# EAGLE library part ATZB-24-A2 (library m_module)
Atmel ZigBitTM 2.4 GHz Wireless Modules ZigBitTM is an ultra-compact, low-power, high-sensitivity 2.4 GHz IEEE 802.15.4/ZigBee® OEM module based on the innovative Atmel?s mixed-signal hardware platform. It is designed for wireless sensing, control and data acquisition applications. ZigBit modules eliminate the need for costly and time-consum- ing RF development, and shortens time to market for a wide range of wireless applications. Two different versions of 2.4 GHz ZigBit modules are available: ATZB-24-B0 module with balanced RF port for applications where the benefits of PCB or external antenna can be utilized and ATZB-24-A2 module with dual chip antenna satisfying the needs of applications requiring integrated, small-footprint antenna design. Key Features Ultra compact size (24 x 13.5 x 2.0 mm for ATZB-24-A2 module and 18.8 x 13.5 x 2.0 mm for ATZB-24-B0 module) Innovative (patent-pending) balanced dual chip antenna design with antenna gain of approximately 0 dBi (for ATZB-24-A2 version) High RX sensitivity (-101 dBm) Outperforming link budget (104 dB) Up to 3 dBm output power Very low power consumption: 6 ?A in Sleep mode, ? 19 mA in RX mode, ? 18mAinTXmode Ample memory resources (128K bytes of flash memory, 8K bytes RAM, 4K bytes EEPROM) Wide range of interfaces (both analog and digital): ? 9 spare GPIO, 2 spare IRQ lines ? 4 ADC lines + 1 line for supply voltage control (up to 9 lines with JTAG disabled) ? UART with CTS/RTS control ? USART ? I2C ? SPI ? 1-Wire ? Up to 30 lines configurable as GPIO ? Capability to write own MAC address into the EEPROM ? Optional antenna reference designs ? IEEE 802.15.4 compliant transceiver ? 2.4 GHz ISM band ? BitCloud embedded software, including serial bootloader and AT command set
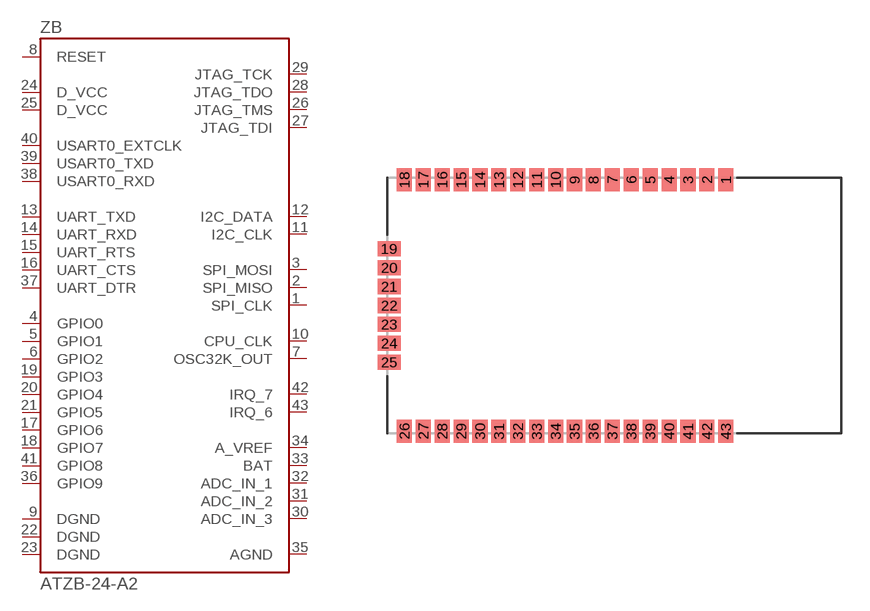
[diagram p3: symbol with the pads of ATZB-24-A2; footprint ATZB-24-A2]

Designator prefix ZB

## ATZB-24-A2 (PARTNUM: ATZB-24-A2)  [ATZB-24-A2]
1  SPI_CLK
2  SPI_MISO
3  SPI_MOSI
4  GPIO0
5  GPIO1
6  GPIO2
7  OSC32K_OUT
8  RESET
9  DGND
10  CPU_CLK
11  I2C_CLK
12  I2C_DATA
13  UART_TXD
14  UART_RXD
15  UART_RTS
16  UART_CTS
17  GPIO6
18  GPIO7
19  GPIO3
20  GPIO4
21  GPIO5
22  DGND
23  DGND
24  D_VCC
25  D_VCC
26  JTAG_TMS
27  JTAG_TDI
28  JTAG_TDO
29  JTAG_TCK
30  ADC_IN_3
31  ADC_IN_2
32  ADC_IN_1
33  BAT
34  A_VREF
35  AGND
36  GPIO9
37  UART_DTR
38  USART0_RXD
39  USART0_TXD
40  USART0_EXTCLK
41  GPIO8
42  IRQ_7
43  IRQ_6

## Footprint ATZB-24-A2 (pad centres in mm)
Atmel ZigBit ATZB-24-A2 Footprint
smd 0.8 x 1.2: 1 8.5,6.65; 2 7.5,6.65; 3 6.5,6.65; 4 5.5,6.65; 5 4.5,6.65; 6 3.5,6.65; 7 2.5,6.65; 8 1.5,6.65; 9 0.5,6.65; 10 -0.5,6.65; 11 -1.5,6.65; 12 -2.5,6.65; 13 -3.5,6.65; 14 -4.5,6.65; 15 -5.5,6.65; 16 -6.5,6.65; 17 -7.5,6.65; 18 -8.5,6.65; 26 -8.5,-6.65; 27 -7.5,-6.65; 28 -6.5,-6.65; 29 -5.5,-6.65; 30 -4.5,-6.65; 31 -3.5,-6.65; 32 -2.5,-6.65; 33 -1.5,-6.65; 34 -0.5,-6.65; 35 0.5,-6.65; 36 1.5,-6.65; 37 2.5,-6.65; 38 3.5,-6.65; 39 4.5,-6.65; 40 5.5,-6.65; 41 6.5,-6.65; 42 7.5,-6.65; 43 8.5,-6.65
smd 1.2 x 0.8: 19 -9.3,3; 20 -9.3,2; 21 -9.3,1; 22 -9.3,0; 23 -9.3,-1; 24 -9.3,-2; 25 -9.3,-3